# Altium schematic symbol library 8.4V_SUPPLY_IN.SchLib: 1 symbol
Pins are listed as number, name and electrical type; pins without a type are passive.

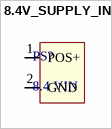
[diagram p0: symbol 8.4V_SUPPLY_IN]

## 8.4V_SUPPLY_IN
designator PS?, comment 8.4 VIN
Power Supply In
footprint 8.4V_SUPPLY_IN (Pad for Bread Board)
pins: 1 POS+, 2 GND